# Altium footprint library LED0603(1608)G.PcbLib: 1 footprints
Each footprint in its own frame and in the unit in brackets; x right, y up, seen from the top. Pads: shape width x height; smd on the part's side, far side on the other; paste and mask are expansions set on the pad; w line width, h text height; cw(c..) or ccw(c..) is an arc to the next point about the centre after c.
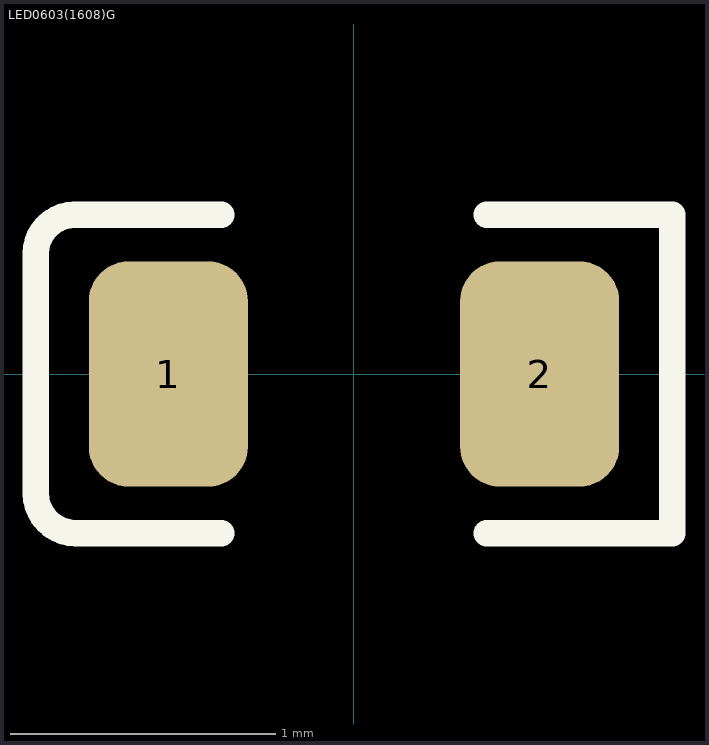
[diagram p0: the footprint, top view; thin cyan lines are the x and y axes]

## LED0603(1608)G [mm]
height 0.55
pads (2):
  rrect50% 0.6x0.85 smd: 1(-0.7,0) 2(0.7,0)
Top Overlay:
  lines w0.1: -1.055,0.6 ccw(c-1.055,0.455) -1.2,0.455 -1.2,-0.45 ccw(c-1.05,-0.45) -1.05,-0.6 -0.5,-0.6 ; -1.05,0.6 -0.5,0.6 ; 0.5,-0.6 1.2,-0.6 1.2,0.6 0.5,0.6
3D body "User Library-0603 LED_grb.step": height 0.7, standoff 0, extent -0.8,-0.4 0.8,0.4